# Altium schematic symbol library APTD1608LVBC_D.SchLib: 1 symbol
Pins are listed as number, name and electrical type; pins without a type are passive.

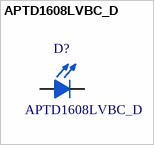
[diagram p0: symbol APTD1608LVBC_D]

## APTD1608LVBC_D
designator D?
Led Blue 0603 2mA 2.65V 65mcd 120mW; Manufacturer_Name: Kingbright; Manufacturer_Part_Number: APTD1608LVBC/D; Geometry.Height: 1.1mm; Mouser Part Number: 604-APTD1608LVBCD; Mouser Price/Stock: https://www.mouser.co.uk/ProductDetail/Kingbright/APTD1608LVBC-D?qs=6oMev5NRZMEfNSg5xIhlKA%3D%3D; Datasheet Link: https://componentsearchengine.com/Datasheets/1/APTD1608LVBC_D.pdf
footprint LEDC1608X110N
pins: 1 C, 2 A